# Altium footprint library YaoPCB.PCBLIB: 415 footprints (part 21 of 26)
Each footprint in its own frame and in the unit in brackets; x right, y up, seen from the top. Pads: shape width x height; smd on the part's side, far side on the other; paste and mask are expansions set on the pad; w line width, h text height; cw(c..) or ccw(c..) is an arc to the next point about the centre after c.
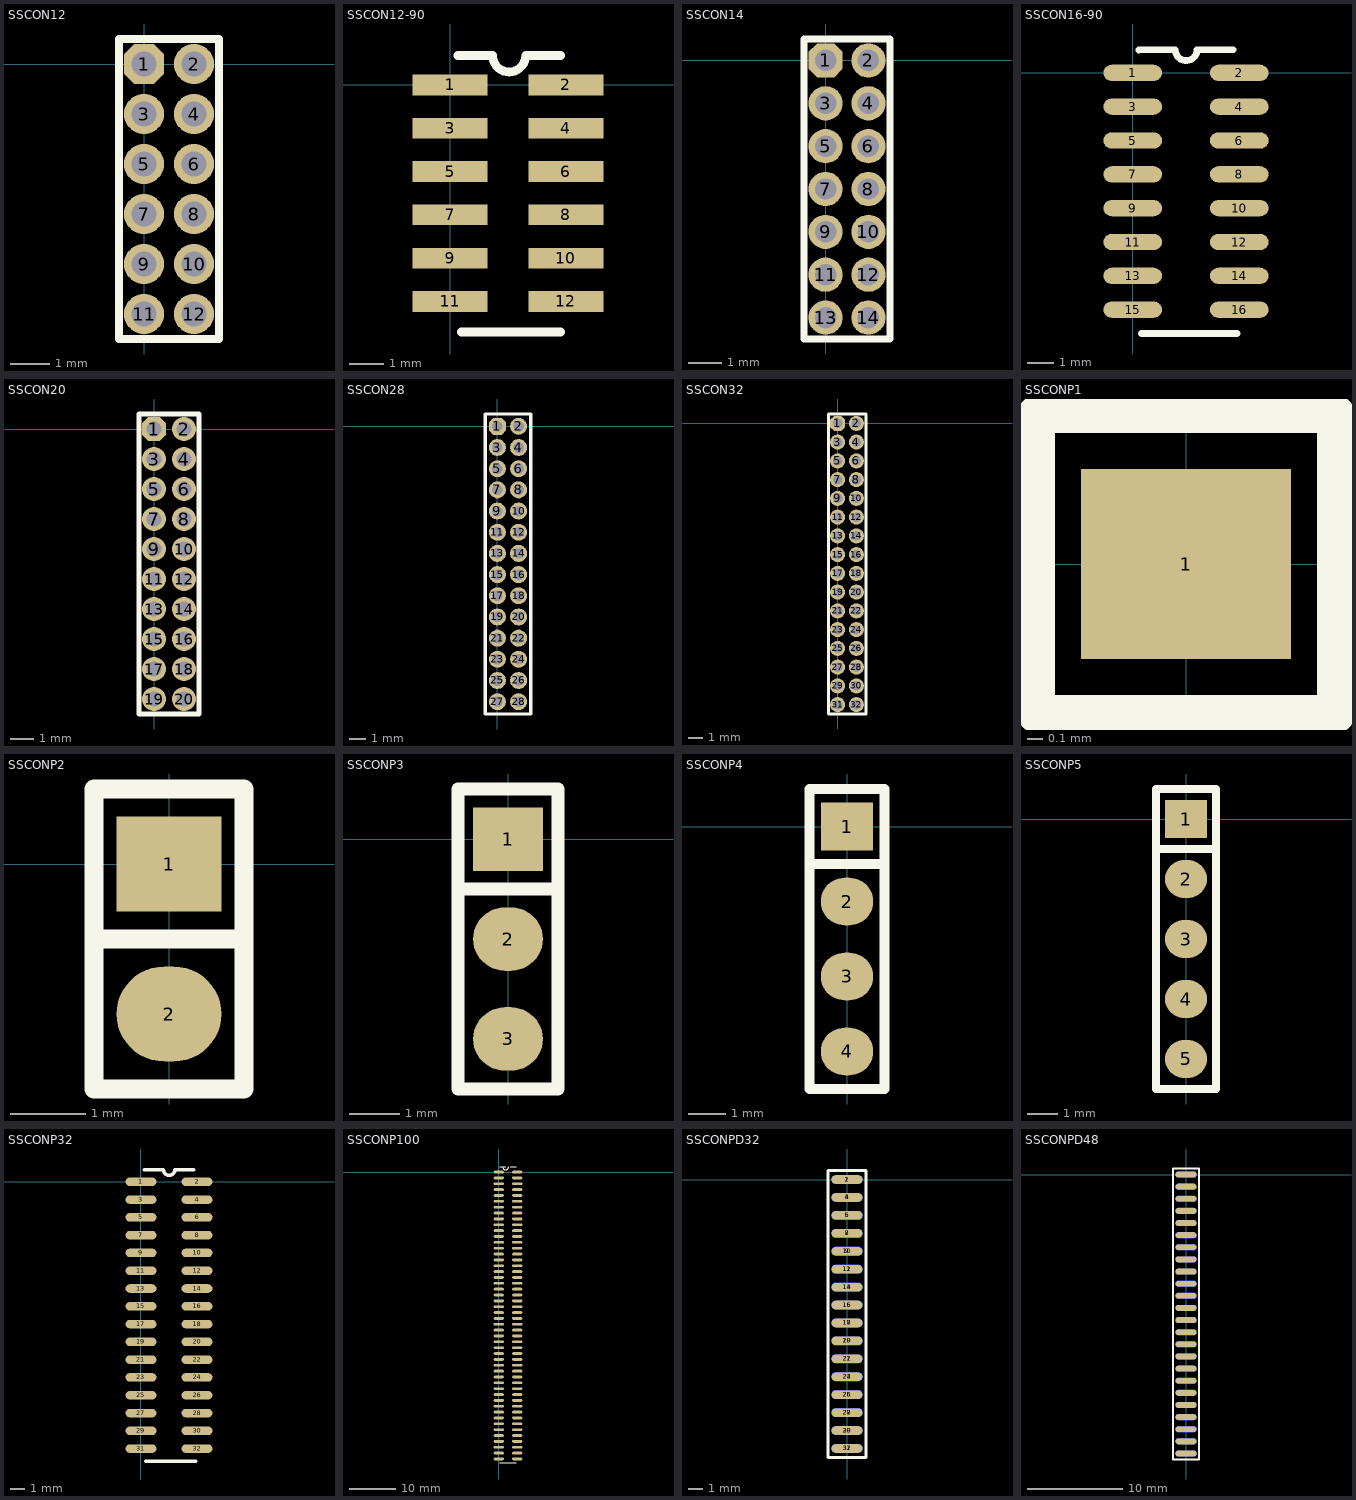
[diagram p20: the footprints below, top view; thin cyan lines are the x and y axes]

## SSCON12 [mil]
pads (12):
  oct 40x40 hole 25: 1(0,0)
  round 40 hole 25: 2(50,0) 3(0,-50) 4(50,-50) 5(0,-100) 6(50,-100) 7(0,-150) 8(50,-150) 9(0,-200) 10(50,-200) 11(0,-250) 12(50,-250)
TopOverlay:
  lines w8: -25,-275 75,-275 75,25 -25,25 -25,-275

## SSCON12-90 [mm]
pads (12):
  rect 2.2x0.61 smd: 1(0,0) 2(3.4,0) 3(0,-1.27) 4(3.4,-1.27) 5(0,-2.54) 6(3.4,-2.54) 7(0,-3.81) 8(3.4,-3.81) 9(0,-5.08) 10(3.4,-5.08) 11(0,-6.35) 12(3.4,-6.35)
TopOverlay:
  lines w0.254: 0.224,0.861 1.25,0.861 ; 0.327,-7.245 3.25,-7.245 ; 1.25,0.86 ccw(c1.734,0.862) 2.217,0.862 3.25,0.862

## SSCON14 [mil]
pads (14):
  oct 40x40 hole 25: 1(0,0)
  round 40 hole 25: 2(50,0) 3(0,-50) 4(50,-50) 5(0,-100) 6(50,-100) 7(0,-150) 8(50,-150) 9(0,-200) 10(50,-200) 11(0,-250) 12(50,-250) 13(0,-300) 14(50,-300)
TopOverlay:
  lines w8: -25,-325 75,-325 75,25 -25,25 -25,-325

## SSCON16-90 [mm]
pads (16):
  oval 2.2x0.61 smd: 1(0,0) 2(4,0) 3(0,-1.27) 4(4,-1.27) 5(0,-2.54) 6(4,-2.54) 7(0,-3.81) 8(4,-3.81) 9(0,-5.08) 10(4,-5.08) 11(0,-6.35) 12(4,-6.35) 13(0,-7.62) 14(4,-7.62) 15(0,-8.89) 16(4,-8.89)
TopOverlay:
  lines w0.254: 0.224,0.861 1.499,0.864 ; 0.327,-9.785 3.912,-9.779 ; 1.6,0.864 ccw(c2.007,0.864) 2.413,0.864 ; 2.489,0.864 3.759,0.864

## SSCON20 [mil]
pads (20):
  oct 40x40 hole 25: 1(0,0)
  round 40 hole 25: 2(50,0) 3(0,-50) 4(50,-50) 5(0,-100) 6(50,-100) 7(0,-150) 8(50,-150) 9(0,-200) 10(50,-200) 11(0,-250) 12(50,-250) 13(0,-300) 14(50,-300) 15(0,-350) 16(50,-350) 17(0,-400) 18(50,-400) 19(0,-450) 20(50,-450)
TopOverlay:
  lines w8: -25,-475 75,-475 75,25 -25,25 -25,-475

## SSCON28 [mil]
pads (28):
  oct 40x40 hole 25: 1(0,0)
  round 40 hole 25: 2(50,0) 3(0,-50) 4(50,-50) 5(0,-100) 6(50,-100) 7(0,-150) 8(50,-150) 9(0,-200) 10(50,-200) 11(0,-250) 12(50,-250) 13(0,-300) 14(50,-300) 15(0,-350) 16(50,-350) 17(0,-400) 18(50,-400) 19(0,-450) 20(50,-450) 21(0,-500) 22(50,-500) 23(0,-550) 24(50,-550) 25(0,-600) 26(50,-600) 27(0,-650) 28(50,-650)
TopOverlay:
  lines w8: -29.13,-679.13 79.13,-679.13 79.13,29.13 -29.13,29.13 -29.13,-679.13

## SSCON32 [mil]
pads (32):
  oct 40x40 hole 25: 1(0,0)
  round 40 hole 25: 2(50,0) 3(0,-50) 4(50,-50) 5(0,-100) 6(50,-100) 7(0,-150) 8(50,-150) 9(0,-200) 10(50,-200) 11(0,-250) 12(50,-250) 13(0,-300) 14(50,-300) 15(0,-350) 16(50,-350) 17(0,-400) 18(50,-400) 19(0,-450) 20(50,-450) 21(0,-500) 22(50,-500) 23(0,-550) 24(50,-550) 25(0,-600) 26(50,-600) 27(0,-650) 28(50,-650) 29(0,-700) 30(50,-700) 31(0,-750) 32(50,-750)
TopOverlay:
  lines w8: -25,-775 75,-775 75,25 -25,25 -25,-775

## SSCONP1 [mil]
pads (1):
  rect 55x50 smd: 1(0,0)
TopOverlay:
  lines w10: 39.37,-39.37 -39.37,-39.37 -39.37,39.37 39.37,39.37 ; 39.37,-39.37 39.37,39.37 ; 39.37,-39.37 39.37,39.37

## SSCONP2 [mil]
pads (2):
  rect 55x50 smd: 1(0,0)
  oval 55x50 smd: 2(0,-78.74)
TopOverlay:
  lines w10: -39.37,-39.37 39.37,-39.37 39.37,39.37 ; 39.37,39.37 39.37,-118.11 -39.37,-118.11 -39.37,39.37 39.37,39.37

## SSCONP3 [mil]
pads (3):
  rect 55x50 smd: 1(0,0)
  oval 55x50 smd: 2(0,-78.74) 3(0,-157.48)
TopOverlay:
  lines w10: -39.37,-39.37 39.37,-39.37 39.37,39.37 ; 39.37,39.37 39.37,-196.85 -39.37,-196.85 -39.37,39.37 39.37,39.37

## SSCONP4 [mil]
pads (4):
  rect 55x50 smd: 1(0,0)
  oval 55x50 smd: 2(0,-78.74) 3(0,-157.48) 4(0,-236.22)
TopOverlay:
  lines w10: -39.37,-39.37 39.37,-39.37 39.37,39.37 ; 39.37,39.37 39.37,-275.59 -39.37,-275.59 -39.37,39.37 39.37,39.37

## SSCONP5 [mil]
pads (5):
  rect 55x50 smd: 1(0,0)
  oval 55x50 smd: 2(0,-78.74) 3(0,-157.48) 4(0,-236.22) 5(0,-314.96)
TopOverlay:
  lines w10: -39.37,-39.37 39.37,-39.37 39.37,39.37 ; 39.37,39.37 -39.37,39.37 -39.37,-354.33 39.37,-354.33 39.37,39.37

## SSCONP32 [mm]
pads (32):
  oval 2.2x0.61 smd: 1(0,0) 2(4,0) 3(0,-1.27) 4(4,-1.27) 5(0,-2.54) 6(4,-2.54) 7(0,-3.81) 8(4,-3.81) 9(0,-5.08) 10(4,-5.08) 11(0,-6.35) 12(4,-6.35) 13(0,-7.62) 14(4,-7.62) 15(0,-8.89) 16(4,-8.89) 17(0,-10.16) 18(4,-10.16) 19(0,-11.43) 20(4,-11.43) 21(0,-12.7) 22(4,-12.7) 23(0,-13.97) 24(4,-13.97) 25(0,-15.24) 26(4,-15.24) 27(0,-16.51) 28(4,-16.51) 29(0,-17.78) 30(4,-17.78) 31(0,-19.05) 32(4,-19.05)
TopOverlay:
  lines w0.254: 0.224,0.861 1.499,0.864 ; 0.327,-19.945 3.912,-19.939 ; 1.6,0.864 ccw(c2.007,0.864) 2.413,0.864 ; 2.489,0.864 3.759,0.864

## SSCONP100 [mm]
pads (100):
  oval 2.2x0.61 smd: 1(0,0) 2(4,0) 3(0,-1.27) 4(4,-1.27) 5(0,-2.54) 6(4,-2.54) 7(0,-3.81) 8(4,-3.81) 9(0,-5.08) 10(4,-5.08) 11(0,-6.35) 12(4,-6.35) 13(0,-7.62) 14(4,-7.62) 15(0,-8.89) 16(4,-8.89) 17(0,-10.16) 18(4,-10.16) 19(0,-11.43) 20(4,-11.43) 21(0,-12.7) 22(4,-12.7) 23(0,-13.97) 24(4,-13.97) 25(0,-15.24) 26(4,-15.24) 27(0,-16.51) 28(4,-16.51) 29(0,-17.78) 30(4,-17.78) 31(0,-19.05) 32(4,-19.05) 33(0,-20.32) 34(4,-20.32) 35(0,-21.59) 36(4,-21.59) 37(0,-22.86) 38(4,-22.86) 39(0,-24.13) 40(4,-24.13) 41(0,-25.4) 42(4,-25.4) 43(0,-26.67) 44(4,-26.67) 45(0,-27.94) 46(4,-27.94) 47(0,-29.21) 48(4,-29.21) 49(0,-30.48) 50(4,-30.48) 51(0,-31.75) 52(4,-31.75) 53(0,-33.02) 54(4,-33.02) 55(0,-34.29) 56(4,-34.29) 57(0,-35.56) 58(4,-35.56) 59(0,-36.83) 60(4,-36.83) 61(0,-38.1) 62(4,-38.1) 63(0,-39.37) 64(4,-39.37) 65(0,-40.64) 66(4,-40.64) 67(0,-41.91) 68(4,-41.91) 69(0,-43.18) 70(4,-43.18) 71(0,-44.45) 72(4,-44.45) 73(0,-45.72) 74(4,-45.72) 75(0,-46.99) 76(4,-46.99) 77(0,-48.26) 78(4,-48.26) 79(0,-49.53) 80(4,-49.53) 81(0,-50.8) 82(4,-50.8) 83(0,-52.07) 84(4,-52.07) 85(0,-53.34) 86(4,-53.34) 87(0,-54.61) 88(4,-54.61) 89(0,-55.88) 90(4,-55.88) 91(0,-57.15) 92(4,-57.15) 93(0,-58.42) 94(4,-58.42) 95(0,-59.69) 96(4,-59.69) 97(0,-60.96) 98(4,-60.96) 99(0,-62.23) 100(4,-62.23)
TopOverlay:
  lines w0.254: 0.2,-63.1 3.785,-63.094 ; 0.224,1.115 1.499,1.118 ; 0.859,1.115 ccw(c1.494,1.115) 2.129,1.115 ; 2.489,1.118 3.759,1.118

## SSCONPD32 [mm]
pads (32):
  oval 2.2x0.61 smd: 1(0,0) 3(0,-1.27) 5(0,-2.54) 7(0,-3.81) 9(0,-5.08) 11(0,-6.35) 13(0,-7.62) 15(0,-8.89) 17(0,-10.16) 19(0,-11.43) 21(0,-12.7) 23(0,-13.97) 25(0,-15.24) 27(0,-16.51) 29(0,-17.78) 31(0,-19.05)
  oval 2.2x0.61 smd far side: 2(0,0) 4(0,-1.27) 6(0,-2.54) 8(0,-3.81) 10(0,-5.08) 12(0,-6.35) 14(0,-7.62) 16(0,-8.89) 18(0,-10.16) 20(0,-11.43) 22(0,-12.7) 24(0,-13.97) 26(0,-15.24) 28(0,-16.51) 30(0,-17.78) 32(0,-19.05)
TopOverlay:
  lines w0.2: -1.35,-19.685 1.35,-19.685 1.35,0.635 -1.35,0.635 -1.35,-19.685
BottomOverlay:
  lines w0.2: -1.346,-19.685 1.346,-19.685 1.346,0.635 -1.346,0.635 -1.346,-19.685

## SSCONPD48 [mm]
pads (48):
  oval 2.2x0.61 smd: 1(0,0) 3(0,-1.27) 5(0,-2.54) 7(0,-3.81) 9(0,-5.08) 11(0,-6.35) 13(0,-7.62) 15(0,-8.89) 17(0,-10.16) 19(0,-11.43) 21(0,-12.7) 23(0,-13.97) 25(0,-15.24) 27(0,-16.51) 29(0,-17.78) 31(0,-19.05) 33(0,-20.32) 35(0,-21.59) 37(0,-22.86) 39(0,-24.13) 41(0,-25.4) 43(0,-26.67) 45(0,-27.94) 47(0,-29.21)
  oval 2.2x0.61 smd far side: 2(0,0) 4(0,-1.27) 6(0,-2.54) 8(0,-3.81) 10(0,-5.08) 12(0,-6.35) 14(0,-7.62) 16(0,-8.89) 18(0,-10.16) 20(0,-11.43) 22(0,-12.7) 24(0,-13.97) 26(0,-15.24) 28(0,-16.51) 30(0,-17.78) 32(0,-19.05) 34(0,-20.32) 36(0,-21.59) 38(0,-22.86) 40(0,-24.13) 42(0,-25.4) 44(0,-26.67) 46(0,-27.94) 48(0,-29.21)
TopOverlay:
  lines w0.2: -1.35,-29.845 -1.35,0.635 1.35,0.635 1.35,-29.845 -1.35,-29.845
BottomOverlay:
  lines w0.2: -1.346,-29.845 -1.346,0.635 1.346,0.635 1.346,-29.845 -1.346,-29.845